# EAGLE library part 690207101472 (library Wuerth_Elektronik_eiCan_MiniModule_Connectors_v1.2)
WR-MM Transition Connector, 14 Pins
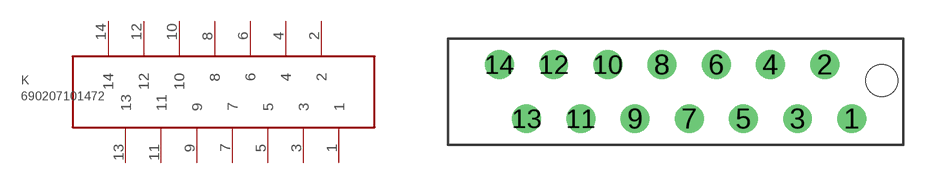
[diagram p69: symbol with the pads of 690207101472; footprint 690207101472]

Designator prefix K

## 690207101472  [690207101472]
1  1  pas
2  2  pas
3  3  pas
4  4  pas
5  5  pas
6  6  pas
7  7  pas
8  8  pas
9  9  pas
10  10  pas
11  11  pas
12  12  pas
13  13  pas
14  14  pas

## Footprint 690207101472 (pad centres in mm)
WR-MM Transition Connector, 14 Pins
drill 0.85 round: 1 4.445,-1.27; 2 3.175,1.27; 3 1.905,-1.27; 4 0.635,1.27; 5 -0.635,-1.27; 6 -1.905,1.27; 7 -3.175,-1.27; 8 -4.445,1.27; 9 -5.715,-1.27; 10 -6.985,1.27; 11 -8.255,-1.27; 12 -9.525,1.27; 13 -10.795,-1.27; 14 -12.065,1.27
hole 1.5 at 5.845,0.53